# Altium footprint library DF51K-10DP-2DS(800).PcbLib: 1 footprints
Each footprint in its own frame and in the unit in brackets; x right, y up, seen from the top. Pads: shape width x height; smd on the part's side, far side on the other; paste and mask are expansions set on the pad; w line width, h text height; cw(c..) or ccw(c..) is an arc to the next point about the centre after c.
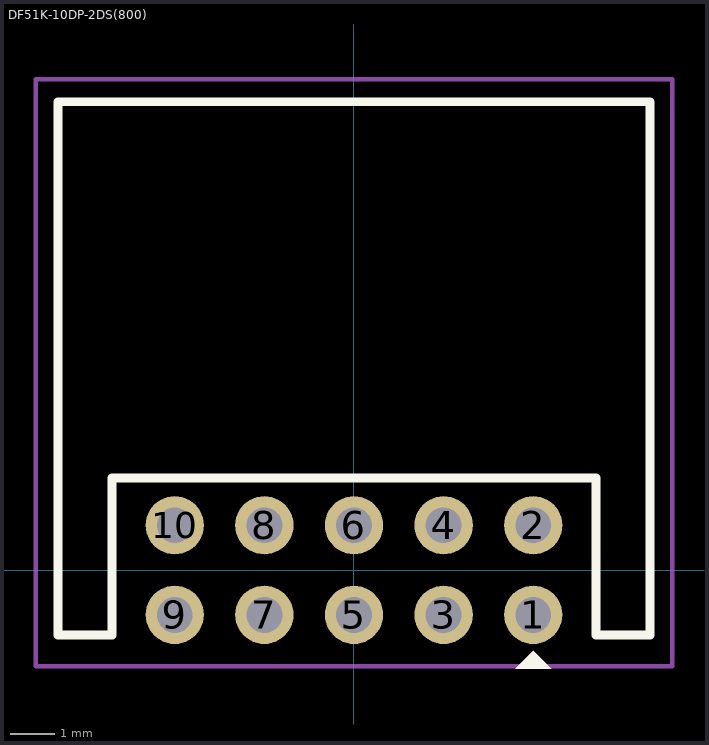
[diagram p0: the footprint, top view; thin cyan lines are the x and y axes]

## DF51K-10DP-2DS(800) [mm]
pads (10):
  round 1.3 hole 0.8: 1(4,-1) 2(4,1) 3(2,-1) 4(2,1) 5(0,-1) 6(0,1) 7(-2,-1) 8(-2,1) 9(-4,-1) 10(-4,1)
Top Overlay:
  region: 4.4,-2.2 3.6,-2.2 4,-1.8
  lines w0.2: -6.6,-1.45 -6.6,10.45 6.6,10.45 6.6,-1.45 5.4,-1.45 5.4,2.05 -5.4,2.05 -5.4,-1.45 -6.6,-1.45
Top Courtyard:
  lines w0.1: -7.1,-2.15 -7.1,10.95 7.1,10.95 7.1,-2.15 -4,-2.15 -7.1,-2.15
3D body "DF51K-10DP-2DS_4800595000_3D.stp": height 8.74, standoff -3.01, extent -6.6,-1.475 6.6,10.425